# Altium schematic symbol library 2NMOS.SchLib: 1 symbol
Pins are listed as number, name and electrical type; pins without a type are passive.

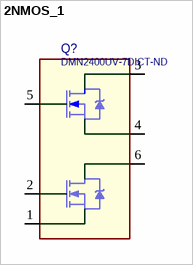
[diagram p0: symbol 2NMOS_1]

## 2NMOS_1
designator Q?, comment DMN2400UV-7DICT-ND
BUY_LINK: http://www.digikey.com/product-detail/en/DMN2400UV-7/DMN2400UV-7DICT-ND/2279231; ID: DMN2400UV-7DICT-ND; PDF: http://www.diodes.com/_files/datasheets/ds31852.pdf; PRICE: 0.46000
footprint SOT563
pins: 1 S, 2 G, 3 D, 4 S, 5 G, 6 D